# Altium footprint library adafruit.PCBLIB: 643 footprints (part 27 of 41)
Each footprint in its own frame and in the unit in brackets; x right, y up, seen from the top. Pads: shape width x height; smd on the part's side, far side on the other; paste and mask are expansions set on the pad; w line width, h text height; cw(c..) or ccw(c..) is an arc to the next point about the centre after c.
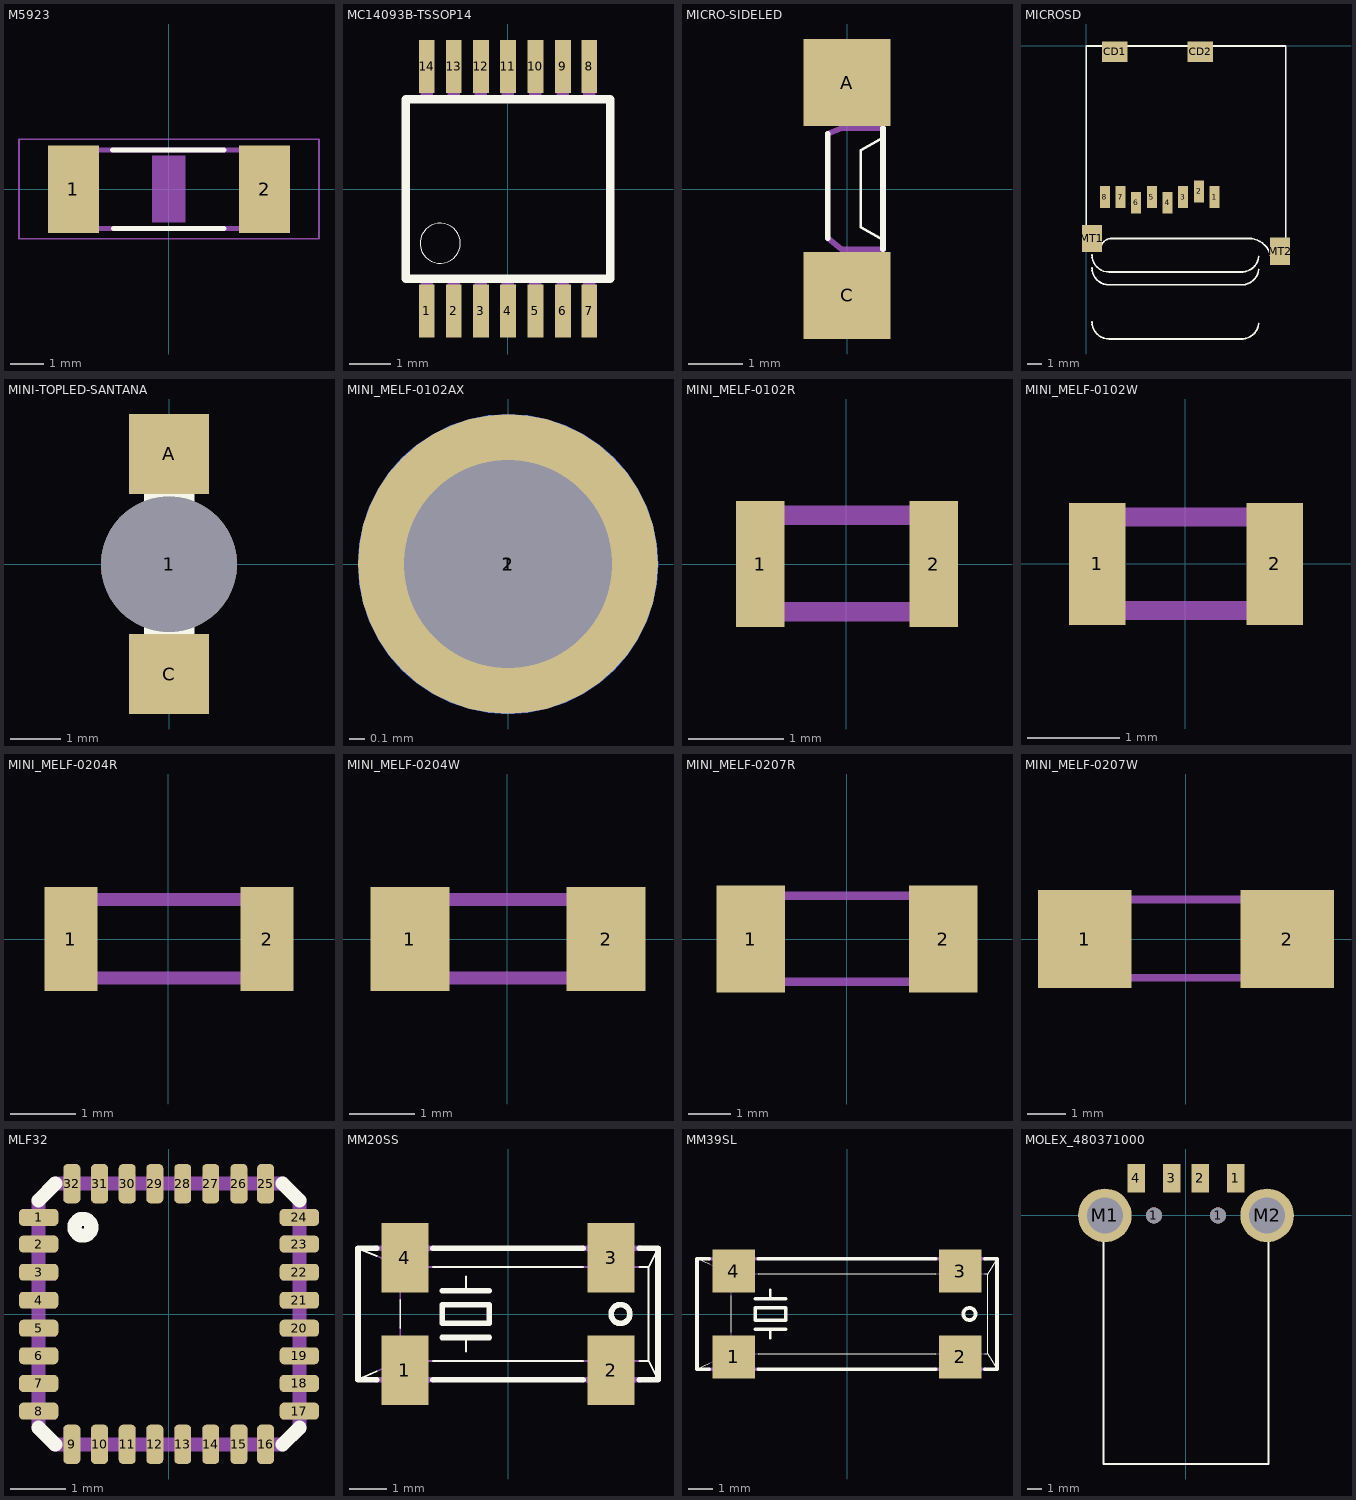
[diagram p26: the footprints below, top view; thin cyan lines are the x and y axes]

## M5923 [mil]
pads (2):
  rect 60x103 smd: 1(-112.2,0) 2(113,0)
Top Overlay:
  lines w6: -66,46 65,46 ; -65,-46 65,-46
Assembly Text Top:
  rectangle: -19.69,-39.37 20,40
Courtyard Bottom:
  rectangle: -120,-49 -94,49
  rectangle: 94,-49 120,49
  lines w6: -96,46 95,46 ; -95,-46 95,-46
Mech37:
  lines w2: -176.1,-58.39 177,-58.39 177,59 -176.1,59 -176.1,-58.39

## MC14093B-TSSOP14 [mil]
pads (14):
  rect 15x50 smd: 1(-76.77,-115.16) 2(-51.18,-115.16) 3(-25.59,-115.16) 4(0,-115.16) 5(26,-115.16) 6(52,-115.16) 7(77,-115.16) 8(77,116) 9(52,116) 10(26,116) 11(0,116) 12(-25.59,116) 13(-51.18,116) 14(-76.77,116)
Top Overlay:
  circle w0: c-63.98,-51.18 r19
  lines w8: -96.46,-84.65 97,-84.65 97,85 -96.46,85 -96.46,-84.65
Top Solder:
  rectangle: -86.61,-141.73 -66.93,-86.61
  rectangle: -61.02,-141.73 -41.34,-86.61
  rectangle: -35.43,-141.73 -15.75,-86.61
  rectangle: -9.84,-141.73 10,-86.61
  rectangle: 16,-141.73 36,-86.61
  rectangle: 42,-141.73 62,-86.61
  rectangle: 67,-141.73 87,-86.61
  rectangle: -86.61,87 -66.93,142
  rectangle: -61.02,87 -41.34,142
  rectangle: -35.43,87 -15.75,142
  rectangle: -9.84,87 10,142
  rectangle: 16,87 36,142
  rectangle: 42,87 62,142
  rectangle: 67,87 87,142
Courtyard Bottom:
  rectangle: -82.68,-129.92 -70.87,-87.6
  rectangle: -57.09,-129.92 -45.28,-87.6
  rectangle: -31.5,-129.92 -19.68,-87.6
  rectangle: -5.91,-129.92 6,-87.6
  rectangle: 20,-129.92 32,-87.6
  rectangle: 46,-129.92 58,-87.6
  rectangle: 71,-129.92 83,-87.6
  region: 83,130 71,130 71,88 83,88
  region: 58,130 46,130 46,88 58,88
  region: 32,130 20,130 20,88 32,88
  region: 6,130 -5.91,130 -5.91,88 6,88
  region: -19.68,130 -31.5,130 -31.5,88 -19.69,88
  region: -45.28,130 -57.09,130 -57.09,88 -45.28,88
  region: -70.87,130 -82.68,130 -82.68,88 -70.87,88

## MICRO-SIDELED [mil]
pads (2):
  rect 63x63 smd: A(0,77) C(0,-76.77)
Top Overlay:
  lines w2: 24,-35.43 10,-27.56 10,28 24,36
  lines w4: -13.78,-35.43 -13.78,40 ; 26,-43.31 26,44
Top Paste:
  rectangle: -13.78,-68.9 14,-45.28
  rectangle: -13.78,46 14,69
Top Solder:
  rectangle: -15.75,44 16,71
  rectangle: -15.75,-70.87 16,-43.31
Courtyard Bottom:
  rectangle: -4.92,45 5,69
  rectangle: -4.92,-68.9 5,-44.29
  lines w4: -13.78,-35.43 -3.94,-43.31 26,-43.31 ; -13.78,40 -3.94,44 26,44

## MICROSD [mil]
pads (12):
  rect 28x60 smd: 1(355,-418.9) 2(312,-403.15) 3(268,-418.9) 4(225,-434.65) 5(182,-418.9) 6(138,-434.65) 7(95,-418.9) 8(52,-418.9)
  rect 71x56 smd: CD1(79,-17.32) CD2(315,-17.32)
  rect 56x75 smd: MT1(16,-533.07) MT2(536,-568.5)
Top Overlay:
  lines w5: 16,-763.78 ccw(c63.12,-763.9) 63,-811.02 426,-811.02 ccw(c429.85,-763.87) 477,-767.72 ; 16,-614.17 ccw(c63.12,-614.3) 63,-661.42 426,-661.42 ccw(c429.85,-614.26) 477,-618.11 ; 16,-578.74 ccw(c63.12,-578.86) 63,-625.98 426,-625.98 ccw(c429.85,-578.83) 477,-582.68 ; 0,-568.5 0,-1.57 552,-1.57 552,-596.06 512,-596.06 ccw(c449,-596.07) 449,-533.07 67,-533.07 ccw(c71.22,-564.29) 40,-568.5 0,-568.5

## MINI-TOPLED-SANTANA [mil]
pads (3):
  round 107 hole 107: 1(0,0)
  rect 63x63 smd: A(0,87) C(0,-86.61)
Top Overlay:
  rectangle: -7.87,-15.75 6,-1.97
  rectangle: -19.68,40 20,56
  rectangle: -19.68,-55.12 20,-41.34
  lines w4: 14,-39.37 28,-39.37 28,-25.59 ; 14,-39.37 -17.72,-39.37 -27.56,-39.37 -27.56,-29.53 -27.56,40 28,40 28,-25.59 ; 14,-39.37 28,-25.59 ; -17.72,-27.56 18,-27.56 18,28 -17.72,28 -17.72,-27.56
Top Paste:
  rectangle: -19.68,-80.71 20,-61.02
  rectangle: -19.68,62 20,81
Top Solder:
  rectangle: -21.65,60 22,83
  rectangle: -21.65,-82.68 22,-59.06
Courtyard Bottom:
  rectangle: -19.68,-82.68 20,-55.12
  rectangle: -19.68,56 20,81

## MINI_MELF-0102AX [mil]
pads (3):
  rrect100% 75x75 smd: 1(0,0)
  round 52 hole 52: 1(0,0)
  rrect100% 75x75 smd far side: 2(0,0)
Courtyard Bottom:
  circle w0: c0,0 r24
Mech43:
  circle w0: c0,0 r24

## MINI_MELF-0102R [mil]
pads (2):
  rect 20x52 smd: 1(-35.43,0) 2(36,0)
Courtyard Bottom:
  lines w8: -39.37,-19.68 40,-19.68 40,20 -39.37,20 -39.37,-19.68

## MINI_MELF-0102W [mil]
pads (2):
  rect 24x52 smd: 1(-37.4,0) 2(38,0)
Courtyard Bottom:
  lines w8: -39.37,-19.68 40,-19.68 40,20 -39.37,20 -39.37,-19.68

## MINI_MELF-0204R [mil]
pads (2):
  rect 32x63 smd: 1(-59.06,0) 2(60,0)
Courtyard Bottom:
  lines w8: -66.93,-23.62 67,-23.62 67,24 -66.93,24 -66.93,-23.62

## MINI_MELF-0204W [mil]
pads (2):
  rect 48x63 smd: 1(-59.06,0) 2(60,0)
Courtyard Bottom:
  lines w8: -66.93,-23.62 67,-23.62 67,24 -66.93,24 -66.93,-23.62

## MINI_MELF-0207R [mil]
pads (2):
  rect 63x99 smd: 1(-88.58,0) 2(89,0)
Courtyard Bottom:
  lines w8: -110.24,-39.37 111,-39.37 111,40 -110.24,40 -110.24,-39.37

## MINI_MELF-0207W [mil]
pads (2):
  rect 95x99 smd: 1(-102.36,0) 2(103,0)
Courtyard Bottom:
  lines w8: -110.24,-39.37 111,-39.37 111,40 -110.24,40 -110.24,-39.37

## MLF32 [mil]
pads (32):
  rrect50% 28x12 smd: 1(-92.52,69) 2(-92.52,50) 3(-92.52,30) 4(-92.52,10) 5(-92.52,-9.84) 6(-92.52,-29.53) 7(-92.52,-49.21) 8(-92.52,-68.9) 17(93,-68.9) 18(93,-49.21) 19(93,-29.53) 20(93,-9.84) 21(93,10) 22(93,30) 23(93,50) 24(93,69)
  rrect50% 12x28 smd: 9(-68.9,-92.52) 10(-49.21,-92.52) 11(-29.53,-92.52) 12(-9.84,-92.52) 13(10,-92.52) 14(30,-92.52) 15(50,-92.52) 16(69,-92.52) 25(69,93) 26(50,93) 27(30,93) 28(10,93) 29(-9.84,93) 30(-29.53,93) 31(-49.21,93) 32(-68.9,93)
Top Overlay:
  circle w10: c-61.02,62 r6
  lines w10: -92.52,-80.71 -80.71,-92.52 ; -92.52,81 -80.71,93 ; 81,-92.52 93,-80.71 ; 81,93 93,81
Courtyard Bottom:
  rectangle: -98.43,63 -80.71,75
  rectangle: -98.43,44 -80.71,56
  rectangle: -98.43,24 -80.71,36
  rectangle: -98.43,4 -80.71,16
  rectangle: -98.43,-15.75 -80.71,-3.94
  rectangle: -98.43,-35.43 -80.71,-23.62
  rectangle: -98.43,-55.12 -80.71,-43.31
  rectangle: -98.43,-74.8 -80.71,-62.99
  rectangle: -74.8,-98.43 -62.99,-80.71
  rectangle: -55.12,-98.43 -43.31,-80.71
  rectangle: -35.43,-98.43 -23.62,-80.71
  rectangle: -15.75,-98.43 -3.94,-80.71
  rectangle: 4,-98.43 16,-80.71
  rectangle: 24,-98.43 36,-80.71
  rectangle: 44,-98.43 56,-80.71
  rectangle: 63,-98.43 75,-80.71
  rectangle: 81,-74.8 99,-62.99
  rectangle: 81,-55.12 99,-43.31
  rectangle: 81,-35.43 99,-23.62
  rectangle: 81,-15.75 99,-3.94
  rectangle: 81,4 99,16
  rectangle: 81,24 99,36
  rectangle: 81,44 99,56
  rectangle: 81,63 99,75
  rectangle: 63,81 75,99
  rectangle: 44,81 56,99
  rectangle: 24,81 36,99
  rectangle: 4,81 16,99
  rectangle: -15.75,81 -3.94,99
  rectangle: -35.43,81 -23.62,99
  rectangle: -55.12,81 -43.31,99
  rectangle: -74.8,81 -62.99,99
  lines w10: -92.52,-80.71 -92.52,81 ; -80.71,-92.52 81,-92.52 ; -80.71,93 81,93 ; 93,-80.71 93,81

## MM20SS [mil]
pads (4):
  rect 50x74 smd: 1(-110,-60) 2(110,-60) 3(110,60) 4(-110,60)
Top Overlay:
  circle w6: c120,0 r10
  lines w2: -160,-70 -140,-61.1 ; -160,70 -140,62 ; -115,-15 -115,15 ; -80,-50 80,-50 ; -80,50 80,50 ; -45,-40 -45,-25 ; -45,25 -45,40 ; 140,-50 150,-50 ; 140,50 150,50 ; 160,-70 150,-50 ; 160,70 150,50 ; 150,-50 150,50
  lines w6: -140,-70 -160,-70 -160,70 -140,70 ; -80,-70 80,-70 ; -80,70 80,70 ; -70,-25 -45,-25 -20,-25 ; -70,25 -45,25 -20,25 ; 140,-70 160,-70 160,70 140,70 ; -70,-10 -20,-10 -20,10 -70,10 -70,-10
Courtyard Bottom:
  lines w2: -140,-61.1 -115,-50 ; -140,62 -115,50 ; -115,-15 -115,-50 ; -115,15 -115,50 ; -80,-50 -115,-50 ; -80,50 -115,50 ; 80,-50 140,-50 ; 80,50 140,50
  lines w6: -140,-70 -80,-70 ; -140,70 -80,70 ; -120,-70 -120,-75 -100,-75 -100,-70 ; -120,70 -120,75 -100,75 -100,70 ; 80,-70 140,-70 ; 80,70 140,70 ; 100,-70 100,-75 120,-75 120,-70 ; 100,70 100,75 120,75 120,70

## MM39SL [mil]
pads (4):
  rect 70x70 smd: 1(-185,-70) 2(185,-70) 3(185,70) 4(-185,70)
Top Overlay:
  circle w6: c200,0 r10
  lines w2: -245,-90 -225,-80.91 ; -245,90 -225,81 ; -190,-30 -190,30 ; -145,-65 145,-65 ; -145,65 145,65 ; 225,-65 230,-65 ; 225,65 230,65 ; 245,-90 230,-65 ; 245,90 230,65 ; 230,-65 230,65
  lines w4: -125,-40 -125,-25 ; -125,25 -125,40
  lines w6: -225,-90 -245,-90 -245,90 -225,90 ; -150,-25 -125,-25 -100,-25 ; -150,25 -125,25 -100,25 ; -145,-90 145,-90 ; -145,90 145,90 ; 225,-90 245,-90 245,90 225,90 ; -150,-10 -100,-10 -100,10 -150,10 -150,-10
Courtyard Bottom:
  lines w2: -225,-80.91 -190,-65 ; -225,81 -190,65 ; -190,-30 -190,-65 ; -190,30 -190,65 ; -145,-65 -190,-65 ; -145,65 -190,65 ; 145,-65 225,-65 ; 145,65 225,65
  lines w6: -225,-90 -145,-90 ; -225,90 -145,90 ; 145,-90 225,-90 ; 145,90 225,90

## MOLEX_480371000 [mil]
pads (8):
  round 44 hole 44: 1(-88.58,0) 1(89,0)
  rect 48x79 smd: 1(138,103) 2(40,103) 3(-39.37,103) 4(-137.8,103)
  round 148.5 hole 99: M1(-224.41,0) M2(225,0)
Top Overlay:
  lines w5: -228.35,0 -228.35,-688.98 229,-688.98 229,0